# Altium footprint library LMR604404SBRAKRQ1.PcbLib: 1 footprints
Each footprint in its own frame and in the unit in brackets; x right, y up, seen from the top. Pads: shape width x height; smd on the part's side, far side on the other; paste and mask are expansions set on the pad; w line width, h text height; cw(c..) or ccw(c..) is an arc to the next point about the centre after c.
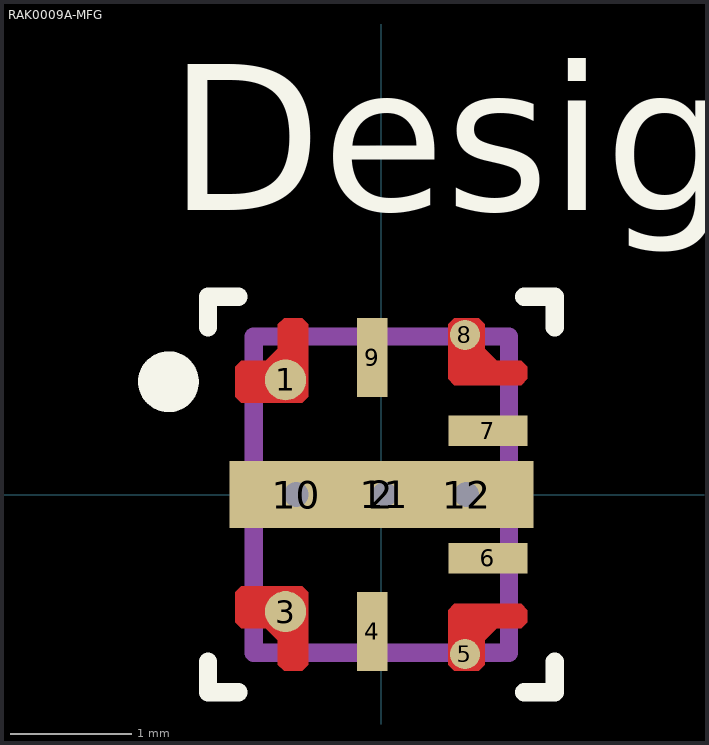
[diagram p0: the footprint, top view; thin cyan lines are the x and y axes]

## RAK0009A-MFG [mm]
pads (12):
  round 0.337 smd paste-0.156 mask+0: 1(-0.787,0.943) 3(-0.787,-0.962)
  rect 2.5x0.55 smd paste-1.237 mask-1.232: 2(0,0)
  rect 0.25x0.65 smd paste+0 mask+0: 4(-0.075,-1.125) 9(-0.075,1.125)
  round 0.247 smd paste+0 mask+0: 5(0.687,-1.312) 8(0.687,1.312)
  rect 0.65x0.25 smd paste+0 mask+0: 6(0.875,-0.525) 7(0.875,0.525)
  round 0.5 hole 0.203 paste-0.25 mask-0.241: 10(-0.7,0) 11(0.025,0) 12(0.7,0)
Top Layer:
  region: -0.65,0.755 -1.15,0.755 -1.2,0.805 -1.2,1.05 -1.15,1.1 -0.95,1.1 -0.85,1.2 -0.85,1.4 -0.8,1.45 -0.65,1.45 -0.6,1.4 -0.6,0.805
  region: -0.65,-0.755 -1.15,-0.755 -1.2,-0.805 -1.2,-1.05 -1.15,-1.1 -0.95,-1.1 -0.85,-1.2 -0.85,-1.4 -0.8,-1.45 -0.65,-1.45 -0.6,-1.4 -0.6,-0.805
  region: 0.6,-0.9 1.15,-0.9 1.2,-0.95 1.2,-1.05 1.15,-1.1 0.95,-1.1 0.85,-1.2 0.85,-1.4 0.8,-1.45 0.6,-1.45 0.55,-1.4 0.55,-0.95
  region: 0.6,0.9 1.15,0.9 1.2,0.95 1.2,1.05 1.15,1.1 0.95,1.1 0.85,1.2 0.85,1.4 0.8,1.45 0.6,1.45 0.55,1.4 0.55,0.95
Top Overlay:
  circle w0.25: c-1.75,0.927 r0.125
  lines w0.15: -1.425,-1.375 -1.425,-1.625 -1.175,-1.625 ; -1.425,1.375 -1.425,1.625 -1.175,1.625 ; 1.175,-1.625 1.425,-1.625 1.425,-1.375 ; 1.175,1.625 1.425,1.625 1.425,1.375
  text "Designator853" at -1.753,2.337 h1.27
  text ".Designator" at -3.492,-0.635 h1.27
Top Paste:
  region: 0.6,-0.9 1.15,-0.9 1.2,-0.95 1.2,-1.05 1.15,-1.1 0.95,-1.1 0.85,-1.2 0.85,-1.4 0.8,-1.45 0.6,-1.45 0.55,-1.4 0.55,-0.95
  region: 1.2,0.95 1.15,0.9 0.6,0.9 0.55,0.95 0.55,1.4 0.6,1.45 0.8,1.45 0.85,1.4 0.85,1.2 0.95,1.1 1.15,1.1 1.2,1.05
  region: -0.69,-0.755 -1.15,-0.755 -1.2,-0.805 -1.2,-1.05 -1.15,-1.1 -0.95,-1.1 -0.85,-1.2 -0.85,-1.4 -0.8,-1.45 -0.69,-1.45 -0.64,-1.4 -0.64,-0.805
  region: -0.69,0.755 -1.15,0.755 -1.2,0.805 -1.2,1.05 -1.15,1.1 -0.95,1.1 -0.85,1.2 -0.85,1.4 -0.8,1.45 -0.69,1.45 -0.64,1.4 -0.64,0.805
  region: -0.15,-0.205 -1.15,-0.205 -1.2,-0.155 -1.2,0.155 -1.15,0.205 -0.15,0.205 -0.1,0.155 -0.1,-0.155
  region: 1.15,-0.15 0.15,-0.15 0.1,-0.1 0.1,0.1 0.15,0.15 1.15,0.15 1.2,0.1 1.2,-0.1
Top Solder:
  region: -0.65,0.755 -1.15,0.755 -1.2,0.805 -1.2,1.05 -1.15,1.1 -0.95,1.1 -0.85,1.2 -0.85,1.4 -0.8,1.45 -0.65,1.45 -0.6,1.4 -0.6,0.805
  region: -1.2,-0.805 -1.15,-0.755 -0.65,-0.755 -0.6,-0.805 -0.6,-1.4 -0.65,-1.45 -0.8,-1.45 -0.85,-1.4 -0.85,-1.2 -0.95,-1.1 -1.15,-1.1 -1.2,-1.05
  region: 0.6,-0.9 1.15,-0.9 1.2,-0.95 1.2,-1.05 1.15,-1.1 0.95,-1.1 0.85,-1.2 0.85,-1.4 0.8,-1.45 0.6,-1.45 0.55,-1.4 0.55,-0.95
  region: 1.2,0.95 1.15,0.9 0.6,0.9 0.55,0.95 0.55,1.4 0.6,1.45 0.8,1.45 0.85,1.4 0.85,1.2 0.95,1.1 1.15,1.1 1.2,1.05
  region: -0.059,-0.225 -1.15,-0.225 -1.2,-0.175 -1.2,0.175 -1.15,0.225 -0.059,0.225 -0.027,0.214 0.037,0.161 0.069,0.15 1.15,0.15 1.2,0.1 1.2,-0.1 1.15,-0.15 0.069,-0.15 0.037,-0.161 -0.027,-0.214
Mechanical 13:
  lines w0.15: -1.05,-1.3 1.05,-1.3 1.05,1.3 -1.05,1.3 -1.05,-1.3
  text ".Designator" at -3.492,-0.635 h1.27